# EAGLE library part 692221030100 (library WR-USB)
WR-USB Standard Connectors Characteristics Widely used Type-A and Type-B connectors, available in different orientation Various mount types: SMT, THT, THR Pin configuration: 4 pins for USB 2.0 / 9 pins for USB 3.x Durable and backward compatible with older USB versions UL, TID listing for USB standards Applications Office and desktop computing systems Industrial control and automation equipment Consumer electronics and peripherals Audio-visual and broadcast systems Details see: www.we-online.com/en/components/products/INPUT_OUTPUT_WR_USB_STANDARD Updated by Ella 2024-05-21 2024 (C) Würth Elektronik
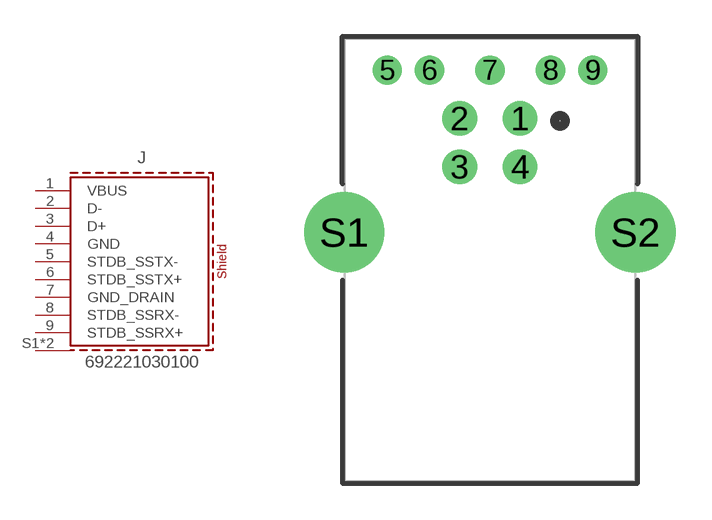
[diagram p19: symbol with the pads of 692221030100; footprint 692221030100]

Designator prefix J

## 692221030100 (APPLICATION: USB 3.0; DATASHEET: https://www.we-online.com/redexpert/spec/692221030100?ae; GERDER: Receptacle; INTERFACE-TYPE: Type B; IR: 1.8 A; MOUNT: THT; PACKAGING: Tray; PART-NUMBER: 692221030100; PCB-THICKNESS: 1.6 mm; PINS: 9pcs; TYPE: Horizontal; VALUE: 692221030100; WORKING-VOLTAGE: 30 V (AC))  [692221030100]
1  VBUS  pas
2  D-  pas
3  D+  pas
4  GND  pas
5  STDB_SSTX-  pas
6  STDB_SSTX+  pas
7  GND_DRAIN  pas
8  STDB_SSRX-  pas
9  STDB_SSRX+  pas
S1  SHIELD  pas
S2  SHIELD  pas

## Footprint 692221030100 (pad centres in mm)
WR-USB Standard Connectors USB 3.0, Type B, Horizontal THT, 9Pins, PCB Thickness:1.6 mm
drill 0.92: 1 1.25,5.86; 2 -1.25,5.86; 3 -1.25,3.86; 4 1.25,3.86
drill 0.7: 5 -4.25,7.86; 6 -2.5,7.86; 7 0,7.86; 8 2.5,7.86; 9 4.25,7.86
drill 2.3: S1 -6.02,1.15; S2 6.02,1.15